# Altium schematic symbol library LM2576_Buckconverter.SchLib: 8 symbols
Pins are listed as number, name and electrical type; pins without a type are passive.

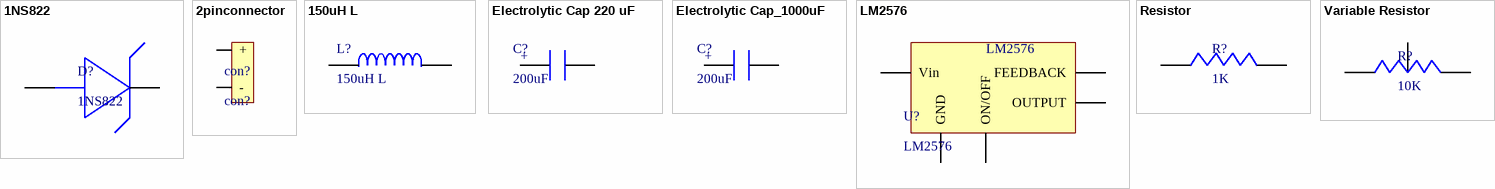
[diagram p0: symbols 1NS822 to Variable Resistor]

## 1NS822
designator D?
footprint 1N5822
pins: 1, 2

## 2pinconnector
designator con?, comment con?
footprint 2pin
pins: 1 +, 2 -

## 150uH L
designator L?
footprint 150uH Inductor
pins: 1, 2

## Electrolytic Cap 220 uF
designator C?, comment 200uF
footprint 220uF Capacitor
pins: 1, 2
text: +

## Electrolytic Cap_1000uF
designator C?, comment 200uF
footprint 1000UF CAP
pins: 1, 2
text: +

## LM2576
designator U?
footprint LM2576-TO63-S (AK,6-Pads,Body 7 ,42 x 8 ,51mm( max , IPC  Medium  Density ))
pins: 1 Vin, 2 OUTPUT, 3 GND, 4 FEEDBACK, 5 ON/OFF

## Resistor
designator R?, comment 1K
footprint 1K 1206 Resistor
pins: 1, 2

## Variable Resistor
designator R?, comment 10K
footprint 10K POT
pins: 1, 2, 3